# EAGLE library part LED_MATRIX_5X7 (library led_matrix_master_lib)
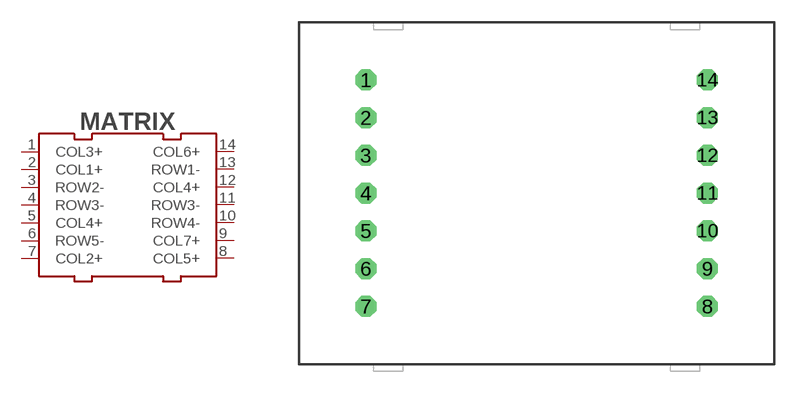
[diagram p6: symbol with the pads of LED_MATRIX_5X7; footprint LED_MATRIX_5X7]

Designator prefix MATRIX

## LED_MATRIX_5X7  [LED_MATRIX_5X7]
1  COL3+
2  COL1+
3  ROW2-
4  ROW3-
5  COL4+
6  ROW5-
7  COL2+
8  COL5+
9  COL7+
10  ROW4-
11  ROW3-
12  COL4+
13  ROW1-
14  COL6+

## Footprint LED_MATRIX_5X7 (pad centres in mm)
drill 0.9 octagon: 1 -11.5,7.62; 2 -11.5,5.08; 3 -11.5,2.54; 4 -11.5,0; 5 -11.5,-2.54; 6 -11.5,-5.08; 7 -11.5,-7.62; 8 11.5,-7.62; 9 11.5,-5.08; 10 11.5,-2.54; 11 11.5,0; 12 11.5,2.54; 13 11.5,5.08; 14 11.5,7.62